# EAGLE library part SEN_DYN_6DOF_IMU (library AHNS10)
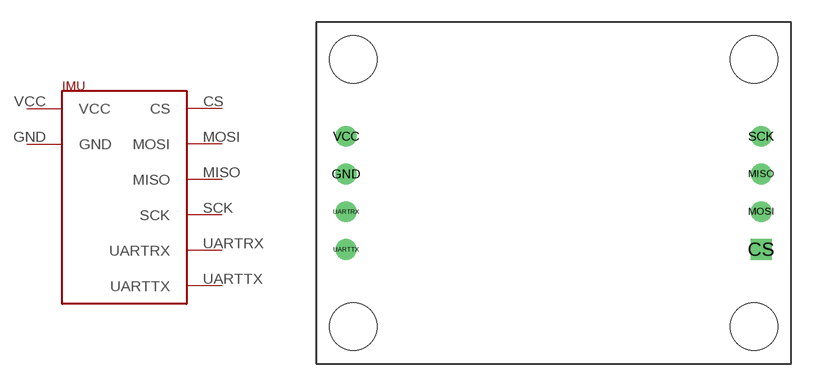
[diagram p0: symbol with the pads of SEN_DYN_6DOF_IMU; footprint SEN_DYN_6DOF_IMU]

Designator prefix -

## SEN_DYN_6DOF_IMU  [SEN_DYN_6DOF_IMU]
CS  CS
GND  GND
MISO  MISO
MOSI  MOSI
SCK  SCK
UARTRX  UARTRX
UARTTX  UARTTX
VCC  VCC

## Footprint SEN_DYN_6DOF_IMU (pad centres in mm)
Sensor Dymanics 6 Degree of Freedom IMU
drill 0.9 square: CS 13.97,-3.81
drill 0.9 round: GND -13.97,1.27; MISO 13.97,1.27; MOSI 13.97,-1.27; SCK 13.97,3.81; UARTRX -13.97,-1.27; UARTTX -13.97,-3.81; VCC -13.97,3.81
hole 3.2 at -13.5,-9
hole 3.2 at 13.5,-9
hole 3.2 at 13.5,9
hole 3.2 at -13.5,9